# Altium schematic symbol library p-mosfet.SchLib: 1 symbol
Pins are listed as number, name and electrical type; pins without a type are passive.

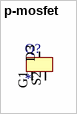
[diagram p0: symbol p-mosfet]

## p-mosfet
designator Q?
pins: D3    (power), G1 Gate (power), S2 Source (power)